# EAGLE library part TPS76650 (library fottes_vol_regs)
250mA low dropout voltage regulator 5V positive rail
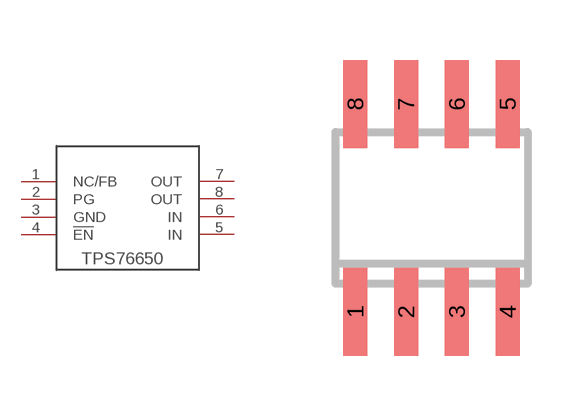
[diagram p0: symbol with the pads of SOIC8; footprint SOIC8]

Designator prefix -

## TPS76650  [SOIC8]
1  NC/FB
2  PG
3  GND
4  !EN
5  IN
6  IN
7  OUT
8  OUT

## Footprint SOIC8 (pad centres in mm)
Small Outline IC
smd 0.6 x 2.2: 1 -1.905,-2.6; 2 -0.635,-2.6; 3 0.635,-2.6; 4 1.905,-2.6; 5 1.905,2.6; 6 0.635,2.6; 7 -0.635,2.6; 8 -1.905,2.6